# Altium schematic symbol library 2015-02-06_01-57-19.SchLib: 24 symbols
Pins are listed as number, name and electrical type; pins without a type are passive.

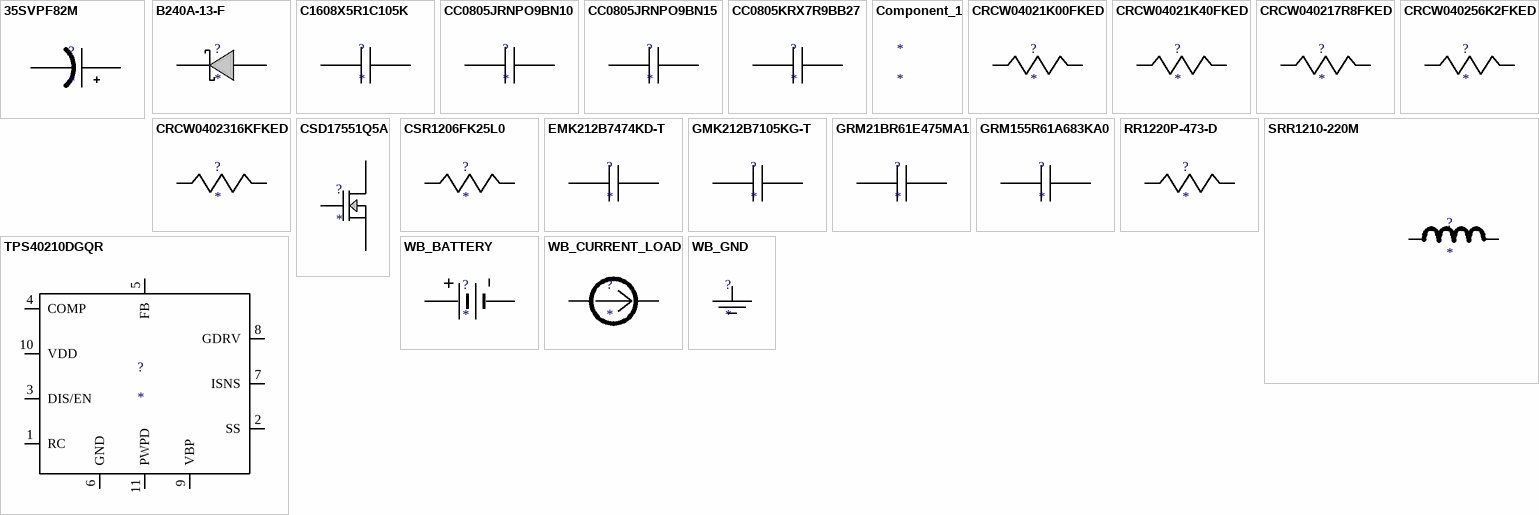
[diagram p0: symbols 35SVPF82M to WB_GND]

## 35SVPF82M
designator ?
Imported; Manufacturer_Part_Number: 35SVPF82M; Vendor: Panasonic; Manufacturer_Name: Panasonic; RefDes: RefDes; TYPE: TYPE; Value: Value
footprint CAPSMT_62_E12
pins: 1 +, 2 -

## B240A-13-F
designator ?
Imported; Manufacturer_Part_Number: B240A-13-F; Vendor: Diodes Inc.; Manufacturer_Name: Diodes Inc.; RefDes: RefDes; Type: Type; Value: Value
footprint SMA
pins: 1 K, 2 A

## C1608X5R1C105K
designator ?
Imported; Manufacturer_Part_Number: C1608X5R1C105K; Vendor: TDK; Manufacturer_Name: TDK; RefDes: RefDes; TYPE: TYPE; Value: Value
footprint 1608
pins: 1, 2

## CC0805JRNPO9BN10
designator ?
Imported; Manufacturer_Part_Number: CC0805JRNPO9BN101; Vendor: Yageo America; Manufacturer_Name: Yageo America; RefDes: RefDes; TYPE: TYPE; Value: Value
footprint 0805
pins: 1, 2

## CC0805JRNPO9BN15
designator ?
Imported; Manufacturer_Part_Number: CC0805JRNPO9BN151; Vendor: Yageo America; Manufacturer_Name: Yageo America; RefDes: RefDes; TYPE: TYPE; Value: Value
footprint 0805
pins: 1, 2

## CC0805KRX7R9BB27
designator ?
Imported; Manufacturer_Part_Number: CC0805KRX7R9BB272; Vendor: Yageo America; Manufacturer_Name: Yageo America; RefDes: RefDes; TYPE: TYPE; Value: Value
footprint 0805
pins: 1, 2

## Component_1
designator *

## CRCW04021K00FKED
designator ?
Imported; Manufacturer_Part_Number: CRCW04021K00FKED; Vendor: Vishay-Dale; Manufacturer_Name: Vishay-Dale; RefDes: RefDes; TYPE: TYPE; Value: Value
footprint 0402
pins: 1, 2

## CRCW04021K40FKED
designator ?
Imported; Manufacturer_Part_Number: CRCW04021K40FKED; Vendor: Vishay-Dale; Manufacturer_Name: Vishay-Dale; RefDes: RefDes; TYPE: TYPE; Value: Value
footprint 0402
pins: 1, 2

## CRCW040217R8FKED
designator ?
Imported; Manufacturer_Part_Number: CRCW040217R8FKED; Vendor: Vishay-Dale; Manufacturer_Name: Vishay-Dale; RefDes: RefDes; TYPE: TYPE; Value: Value
footprint 0402
pins: 1, 2

## CRCW040256K2FKED
designator ?
Imported; Manufacturer_Part_Number: CRCW040256K2FKED; Vendor: Vishay-Dale; Manufacturer_Name: Vishay-Dale; RefDes: RefDes; TYPE: TYPE; Value: Value
footprint 0402
pins: 1, 2

## CRCW0402316KFKED
designator ?
Imported; Manufacturer_Part_Number: CRCW0402316KFKED; Vendor: Vishay-Dale; Manufacturer_Name: Vishay-Dale; RefDes: RefDes; TYPE: TYPE; Value: Value
footprint 0402
pins: 1, 2

## CSD17551Q5A
designator ?
Imported; Manufacturer_Part_Number: CSD17551Q5A; Vendor: Texas Instruments; Manufacturer_Name: Texas Instruments; RefDes: RefDes; TYPE: TYPE; Value: Value
footprint TRANS_NexFET_Q5A
pins: 1 Source, 2 Source, 3 Source, 4 Gate, 5 Drain, 6 Drain, 7 Drain, 8 Drain, 9 Drain

## CSR1206FK25L0
designator ?
Imported; Manufacturer_Part_Number: CSR1206FK25L0; Vendor: Stackpole Electronics Inc; Manufacturer_Name: Stackpole Electronics Inc; RefDes: RefDes; TYPE: TYPE; Value: Value
footprint 1206
pins: 1, 2

## EMK212B7474KD-T
designator ?
Imported; Manufacturer_Part_Number: EMK212B7474KD-T; Vendor: Taiyo Yuden; Manufacturer_Name: Taiyo Yuden; RefDes: RefDes; TYPE: TYPE; Value: Value
footprint 0805
pins: 1, 2

## GMK212B7105KG-T
designator ?
Imported; Manufacturer_Part_Number: GMK212B7105KG-T; Vendor: Taiyo Yuden; Manufacturer_Name: Taiyo Yuden; RefDes: RefDes; TYPE: TYPE; Value: Value
footprint 0805
pins: 1, 2

## GRM21BR61E475MA1
designator ?
Imported; Manufacturer_Part_Number: GRM21BR61E475MA12L; Vendor: MuRata; Manufacturer_Name: MuRata; RefDes: RefDes; TYPE: TYPE; Value: Value
footprint 0805
pins: 1, 2

## GRM155R61A683KA0
designator ?
Imported; Manufacturer_Part_Number: GRM155R61A683KA01D; Vendor: MuRata; Manufacturer_Name: MuRata; RefDes: RefDes; TYPE: TYPE; Value: Value
footprint 0402
pins: 1, 2

## RR1220P-473-D
designator ?
Imported; Manufacturer_Part_Number: RR1220P-473-D; Vendor: Susumu Co Ltd; Manufacturer_Name: Susumu Co Ltd; RefDes: RefDes; TYPE: TYPE; Value: Value
footprint 0805
pins: 1, 2

## SRR1210-220M
designator ?
Imported; Manufacturer_Part_Number: SRR1210-220M; Vendor: Bourns; Manufacturer_Name: Bourns; RefDes: RefDes; TYPE: TYPE; Value: Value
footprint SRR1210
pins: 1, 2

## TPS40210DGQR
designator ?
Imported; Manufacturer_Part_Number: TPS40210DGQR; Vendor: Texas Instruments; Manufacturer_Name: Texas Instruments; RefDes: RefDes; TYPE: TYPE; Value: Value
footprint S-PDSO-G10
pins: 1 RC, 2 SS, 3 DIS/EN, 4 COMP, 5 FB, 6 GND, 7 ISNS, 8 GDRV, 9 VBP, 10 VDD, 11 PWPD

## WB_BATTERY
designator ?
Imported; Manufacturer_Part_Number: WB_BATTERY; PowerPortType: POWER_GROUND; Value: Value; Manufacturer_Name: WB_BATTERY; RefDes: RefDes; TYPE: TYPE
pins: 1 +, 2 -

## WB_CURRENT_LOAD
designator ?
Imported; Manufacturer_Part_Number: WB_CURRENT_LOAD; PowerPortType: POWER_GROUND; Value: Value; Manufacturer_Name: WB_CURRENT_LOAD; RefDes: RefDes; TYPE: TYPE
pins: 1 +, 2 -

## WB_GND
designator ?
Imported; Manufacturer_Part_Number: WB_GND; PowerPortType: POWER_GROUND; Value: Value; Manufacturer_Name: WB_GND; RefDes: RefDes; TYPE: TYPE
pins: 1